# EAGLE library part 2560-5002UB (library 3M_By_element14_Batch_1)
Four-Wall Header
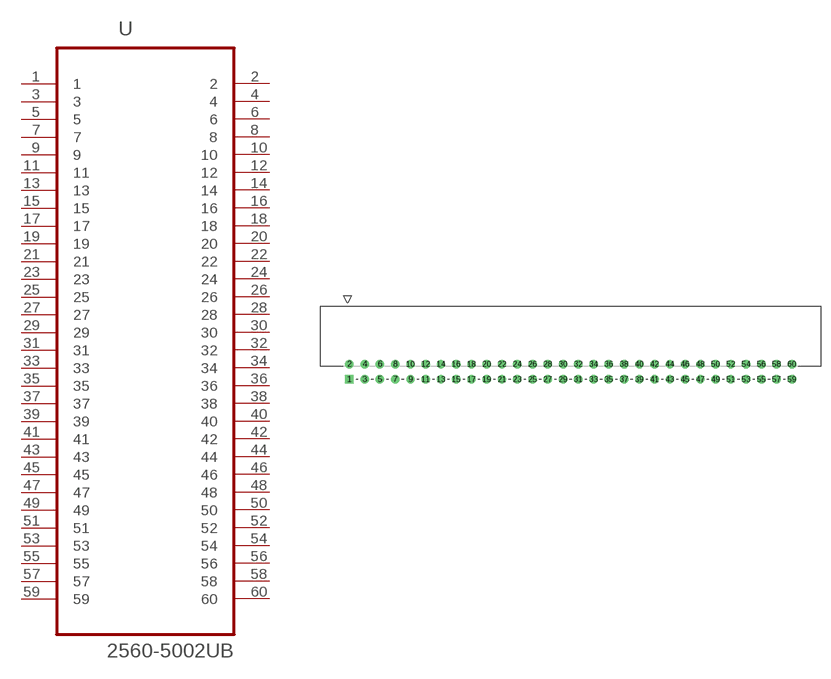
[diagram p30: symbol with the pads of 3M_2560-5002UB; footprint 3M_2560-5002UB]

Designator prefix U

## 2560-5002UB (MPN: 2560-5002UB; OC_FARNELL: 1368904; OC_NEWARK: 46F4724; PACKAGE: Header-60Pin; SUPPLIER: 3M)  [3M_2560-5002UB]
1  1  pas
2  2  pas
3  3  pas
4  4  pas
5  5  pas
6  6  pas
7  7  pas
8  8  pas
9  9  pas
10  10  pas
11  11  pas
12  12  pas
13  13  pas
14  14  pas
15  15  pas
16  16  pas
17  17  pas
18  18  pas
19  19  pas
20  20  pas
21  21  pas
22  22  pas
23  23  pas
24  24  pas
25  25  pas
26  26  pas
27  27  pas
28  28  pas
29  29  pas
30  30  pas
31  31  pas
32  32  pas
33  33  pas
34  34  pas
35  35  pas
36  36  pas
37  37  pas
38  38  pas
39  39  pas
40  40  pas
41  41  pas
42  42  pas
43  43  pas
44  44  pas
45  45  pas
46  46  pas
47  47  pas
48  48  pas
49  49  pas
50  50  pas
51  51  pas
52  52  pas
53  53  pas
54  54  pas
55  55  pas
56  56  pas
57  57  pas
58  58  pas
59  59  pas
60  60  pas

## Footprint 3M_2560-5002UB (pad centres in mm)
drill 0.889 square: 1 0,-0.94
drill 0.889: 2 0,1.6; 3 2.54,-0.94; 4 2.54,1.6; 5 5.08,-0.94; 6 5.08,1.6; 7 7.62,-0.94; 8 7.62,1.6; 9 10.16,-0.94; 10 10.16,1.6; 11 12.7,-0.94; 12 12.7,1.6; 13 15.24,-0.94; 14 15.24,1.6; 15 17.78,-0.94; 16 17.78,1.6; 17 20.32,-0.94; 18 20.32,1.6; 19 22.86,-0.94; 20 22.86,1.6; 21 25.4,-0.94; 22 25.4,1.6; 23 27.94,-0.94; 24 27.94,1.6; 25 30.48,-0.94; 26 30.48,1.6; 27 33.02,-0.94; 28 33.02,1.6; 29 35.56,-0.94; 30 35.56,1.6; 31 38.1,-0.94; 32 38.1,1.6; 33 40.64,-0.94; 34 40.64,1.6; 35 43.18,-0.94; 36 43.18,1.6; 37 45.72,-0.94; 38 45.72,1.6; 39 48.26,-0.94; 40 48.26,1.6; 41 50.8,-0.94; 42 50.8,1.6; 43 53.34,-0.94; 44 53.34,1.6; 45 55.88,-0.94; 46 55.88,1.6; 47 58.42,-0.94; 48 58.42,1.6; 49 60.96,-0.94; 50 60.96,1.6; 51 63.5,-0.94; 52 63.5,1.6; 53 66.04,-0.94; 54 66.04,1.6; 55 68.58,-0.94; 56 68.58,1.6; 57 71.12,-0.94; 58 71.12,1.6; 59 73.66,-0.94; 60 73.66,1.6